# Altium footprint library amp.PcbLib: 4 footprints
Each footprint in its own frame and in the unit in brackets; x right, y up, seen from the top. Pads: shape width x height; smd on the part's side, far side on the other; paste and mask are expansions set on the pad; w line width, h text height; cw(c..) or ccw(c..) is an arc to the next point about the centre after c.
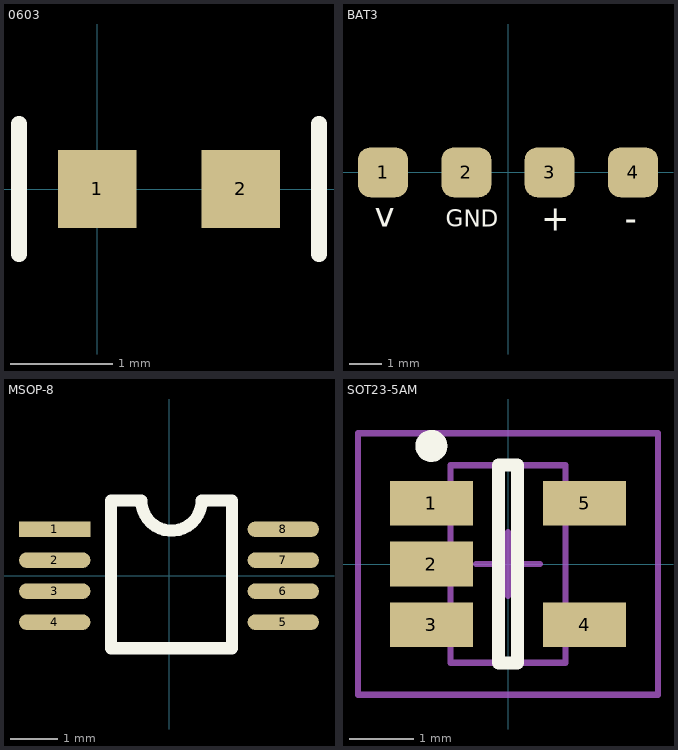
[diagram p0: the footprints below, top view; thin cyan lines are the x and y axes]

## 0603 [mil]
height 177.17
pads (2):
  rect 30x30 smd: 1(0,0) 2(55,0)
Top Overlay:
  lines w6: -30,-25 -30,25 ; 85,-25 85,25

## BAT3 [mil]
height 78.74
pads (4):
  rrect50% 60x60 smd: 1(-150,0) 2(-50,0) 3(50,0) 4(150,0)
Top Overlay:
  text "-" at 140,-70 h30
  text "+" at 40,-70 h30
  text "GND" at -75,-65 h20
  text "v" at -160,-65 h30

## MSOP-8 [mm]
height 2
pads (8):
  rect 1.5x0.325 smd: 1(-2.4,0.975)
  oval 1.5x0.325 smd: 2(-2.4,0.325) 3(-2.4,-0.325) 4(-2.4,-0.975) 5(2.4,-0.975) 6(2.4,-0.325) 7(2.4,0.325) 8(2.4,0.975)
Top Overlay:
  lines w0.254: -1.217,-1.525 -1.217,1.58 -0.582,1.58 ccw(c0.053,1.58) 0.688,1.58 1.323,1.58 1.323,-1.525 -1.217,-1.525

## SOT23-5AM [mm] "SOT23, 5-Leads, Body 2.9x1.7mm, Pitch 0.95mm, Lead Span 2.8mm, IPC Low Density"
height 1.45
pads (5):
  rect 1.3x0.7 smd: 1(-1.2,0.95) 2(-1.2,0) 3(-1.2,-0.95) 4(1.2,-0.95) 5(1.2,0.95)
Top Overlay:
  circle w0.25: c-1.2,1.85 r0.125
  lines w0.2: -0.15,-1.55 -0.15,1.55 0.15,1.55 0.15,-1.55 -0.15,-1.55
Mechanical 13:
  lines w0.1: -0.9,-1.55 0.9,-1.55 0.9,1.55 -0.9,1.55 -0.9,-1.55
Mechanical 15:
  lines w0.1: -0.5,0 0.5,0 ; 0,-0.5 0,0.5 ; -2.35,-2.05 2.35,-2.05 2.35,2.05 -2.35,2.05 -2.35,-2.05
3D body: height 1.45, standoff 0, extent -0.9,-1.55 0.9,1.55